# Altium schematic symbol library power-converter.SchLib: 5 symbols
Pins are listed as number, name and electrical type; pins without a type are passive.

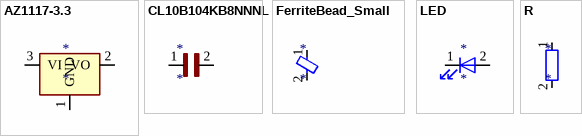
[diagram p0: symbols AZ1117-3.3 to R]

## AZ1117-3.3
designator *
pins: 1 GND, 2 VO, 3 VI

## CL10B104KB8NNNL
designator *
pins: 1, 2

## FerriteBead_Small
designator *
pins: 1, 2

## LED
designator *
pins: 1 K, 2 A

## R
designator *
pins: 1, 2